# EAGLE library part IMX219 (library Sony)
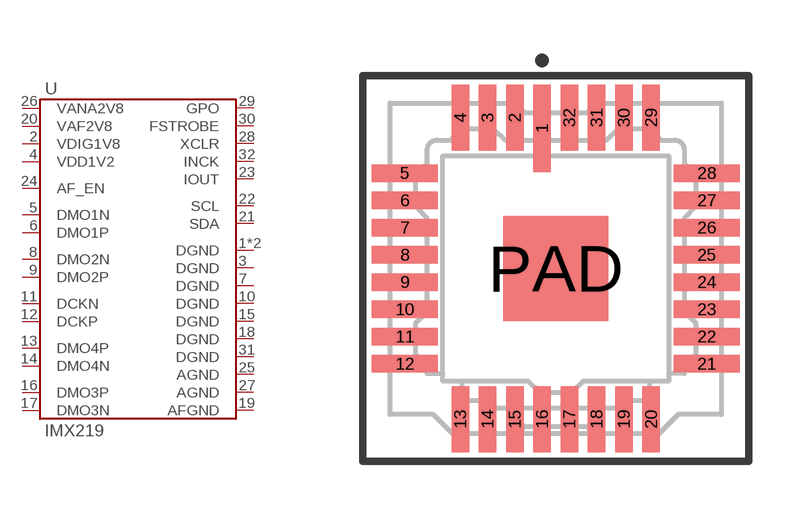
[diagram p0: symbol with the pads of IMX219; footprint IMX219]

Designator prefix U

## IMX219  [IMX219]
1  DGND
2  VDIG1V8
3  DGND
4  VDD1V2
5  DMO1N
6  DMO1P
7  DGND
8  DMO2N
9  DMO2P
10  DGND
11  DCKN
12  DCKP
13  DMO4P
14  DMO4N
15  DGND
16  DMO3P
17  DMO3N
18  DGND
19  AFGND
20  VAF2V8
21  SDA
22  SCL
23  IOUT
24  AF_EN
25  AGND
26  VANA2V8
27  AGND
28  XCLR
29  GPO
30  FSTROBE
31  DGND
32  INCK
PAD  DGND

## Footprint IMX219 (pad centres in mm)
smd 0.45 x 2.25: 1 -0.35,3.6
smd 0.45 x 1.7: 2 -1.05,3.875; 3 -1.75,3.875; 4 -2.45,3.875; 13 -2.45,-3.875; 14 -1.75,-3.875; 15 -1.05,-3.875; 16 -0.35,-3.875; 17 0.35,-3.875; 18 1.05,-3.875; 19 1.75,-3.875; 20 2.45,-3.875; 29 2.45,3.875; 30 1.75,3.875; 31 1.05,3.875; 32 0.35,3.875
smd 1.7 x 0.45: 5 -3.875,2.45; 6 -3.875,1.75; 7 -3.875,1.05; 8 -3.875,0.35; 9 -3.875,-0.35; 10 -3.875,-1.05; 11 -3.875,-1.75; 12 -3.875,-2.45; 21 3.875,-2.45; 22 3.875,-1.75; 23 3.875,-1.05; 24 3.875,-0.35; 25 3.875,0.35; 26 3.875,1.05; 27 3.875,1.75; 28 3.875,2.45
smd 2.7 x 2.7: PAD 0,0